# Altium footprint library HT-HC02.PcbLib: 1 footprints
Each footprint in its own frame and in the unit in brackets; x right, y up, seen from the top. Pads: shape width x height; smd on the part's side, far side on the other; paste and mask are expansions set on the pad; w line width, h text height; cw(c..) or ccw(c..) is an arc to the next point about the centre after c.
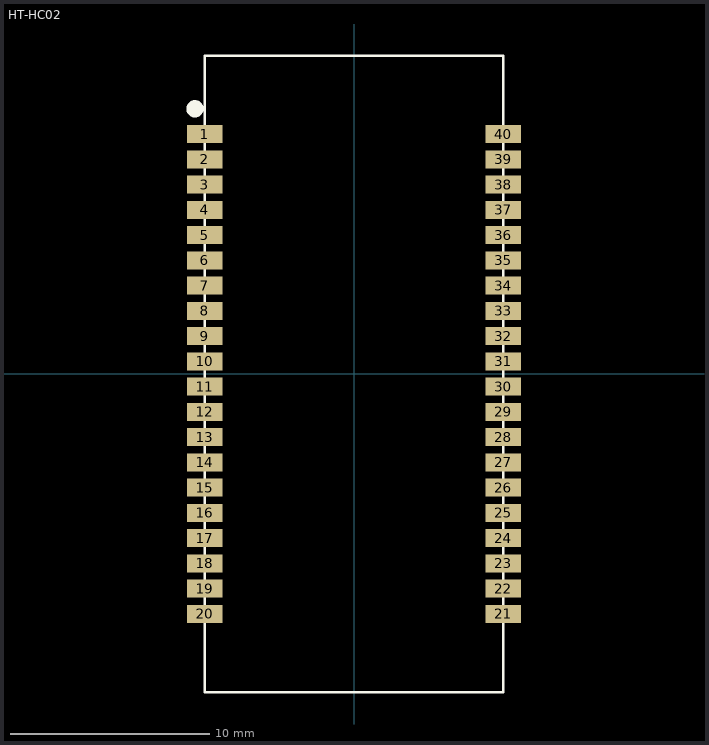
[diagram p0: the footprint, top view; thin cyan lines are the x and y axes]

## HT-HC02 [mm]
pads (40):
  rect 1.8x0.9 smd: 1(-7.5,12.065) 2(-7.5,10.795) 3(-7.5,9.525) 4(-7.5,8.255) 5(-7.5,6.985) 6(-7.5,5.715) 7(-7.5,4.445) 8(-7.5,3.175) 9(-7.5,1.905) 10(-7.5,0.635) 11(-7.5,-0.635) 12(-7.5,-1.905) 13(-7.5,-3.175) 14(-7.5,-4.445) 15(-7.5,-5.715) 16(-7.5,-6.985) 17(-7.5,-8.255) 18(-7.5,-9.525) 19(-7.5,-10.795) 20(-7.5,-12.065) 21(7.5,-12.065) 22(7.5,-10.795) 23(7.5,-9.525) 24(7.5,-8.255) 25(7.5,-6.985) 26(7.5,-5.715) 27(7.5,-4.445) 28(7.5,-3.175) 29(7.5,-1.905) 30(7.5,-0.635) 31(7.5,0.635) 32(7.5,1.905) 33(7.5,3.175) 34(7.5,4.445) 35(7.5,5.715) 36(7.5,6.985) 37(7.5,8.255) 38(7.5,9.525) 39(7.5,10.795) 40(7.5,12.065)
Top Overlay:
  circle w0.508: c-8.001,13.335 r0.18
  lines w0.127: -7.5,-16 7.5,-16 7.5,16 -7.5,16 -7.5,-16